# Altium footprint library PCB - LIGHT PIPE - BIVAR SLP3-250-100-F.PCBLIB: 1 footprints
Each footprint in its own frame and in the unit in brackets; x right, y up, seen from the top. Pads: shape width x height; smd on the part's side, far side on the other; paste and mask are expansions set on the pad; w line width, h text height; cw(c..) or ccw(c..) is an arc to the next point about the centre after c.
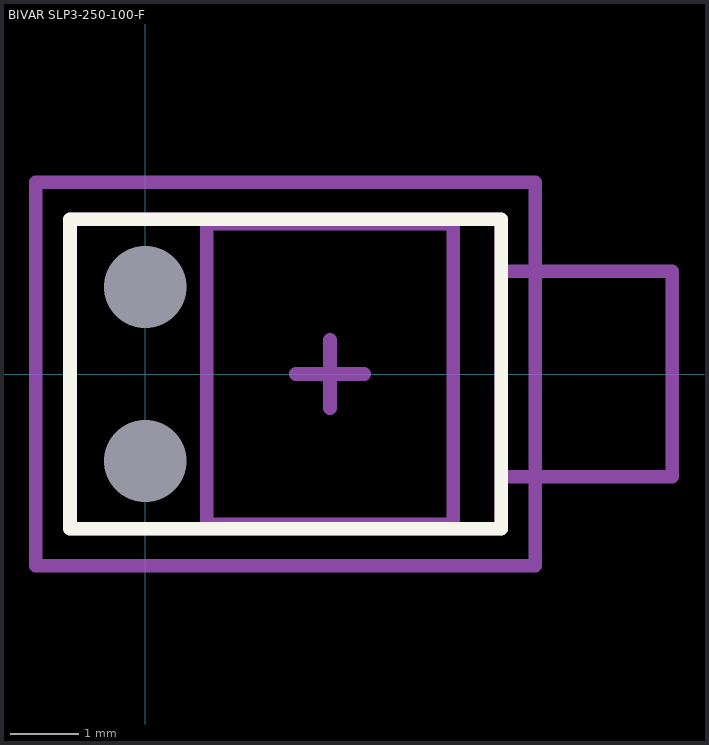
[diagram p0: the footprint, top view; thin cyan lines are the x and y axes]

## BIVAR SLP3-250-100-F [mm] "Light Pipe"
height 7.85
pads (2):
  rect 0x0 hole 1.2 unplated: M(0,-1.27) M(0,1.27)
Top Overlay:
  lines w0.2: -1.1,-2.261 -1.1,2.261 5.2,2.261 5.2,-2.261 -1.1,-2.261
Mechanical 1:
  lines w0.2: 2.2,0 3.2,0 ; 2.7,-0.5 2.7,0.5 ; 5.2,-1.5 7.7,-1.5 7.7,1.5 5.2,1.5 ; -1.1,-2.261 5.2,-2.261 5.2,2.261 -1.1,2.261 -1.1,-2.261 ; 0.9,-2.2 4.5,-2.2 4.5,0 4.5,2.2 0.9,2.2 0.9,0 0.9,-2.2
Mechanical 15:
  lines w0.2: -1.6,-2.8 5.7,-2.8 5.7,2.8 -1.6,2.8 -1.6,-2.8
3D body "SLP3-250-100-F.STEP": height 7.85, standoff -1.6, extent -1.145,-2.221 7.745,2.3